# Altium footprint library фильтры.PcbLib: 5 footprints
Each footprint in its own frame and in the unit in brackets; x right, y up, seen from the top. Pads: shape width x height; smd on the part's side, far side on the other; paste and mask are expansions set on the pad; w line width, h text height; cw(c..) or ccw(c..) is an arc to the next point about the centre after c.
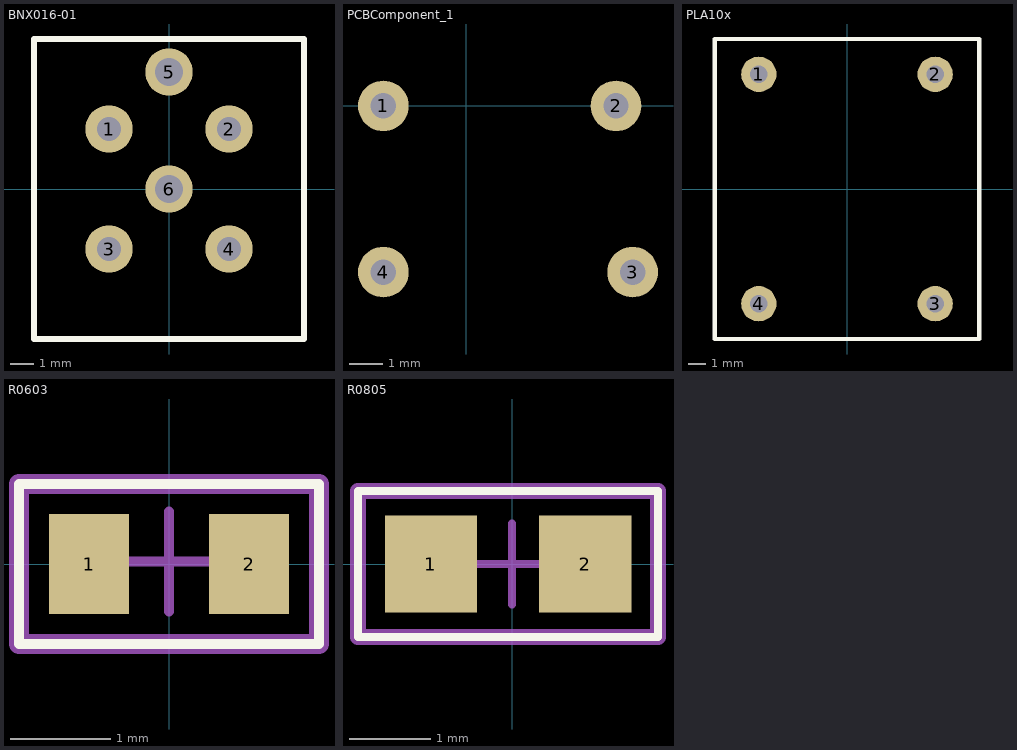
[diagram p0: the footprints below, top view; thin cyan lines are the x and y axes]

## BNX016-01 [mm]
pads (6):
  round 2 hole 1: 1(-2.54,2.54) 2(2.54,2.54) 3(-2.54,-2.54) 4(2.54,-2.54)
  round 2 hole 1.2: 5(0,4.953) 6(0,0)
Top Overlay:
  lines w0.254: -5.715,-6.35 5.715,-6.35 5.715,6.35 -5.715,6.35 -5.715,-6.35
3D body "User Library-muRata_BNX016-01.step": height 8, standoff -4, extent -5.5,-6 5.5,6

## PCBComponent_1 [mil]
pads (4):
  round 60 hole 30: 1(-98.43,0) 2(177.17,0) 3(196.85,-196.85) 4(-98.43,-196.85)

## PLA10x [mm]
pads (4):
  round 2 hole 1: 1(-5,6.5) 2(5,6.5) 3(5,-6.5) 4(-5,-6.5)
Top Overlay:
  lines w0.254: -7.5,-8.5 7.5,-8.5 7.5,8.5 -7.5,8.5 -7.5,-8.5
3D body "User Library-PLA10-1.STEP": height 16.3, standoff -3.3, extent -7.5,-8.385 7.5,8.407

## R0603 [mm]
pads (2):
  rect 0.8x1 smd: 1(-0.8,0) 2(0.8,0)
Top Overlay:
  lines w0.1: -1.5,-0.8 1.5,-0.8 1.5,0.8 -1.5,0.8 -1.5,-0.8
Mechanical 7:
  lines w0.2: -1.5,-0.8 -1.5,0.8 1.5,0.8 1.5,-0.8 -1.5,-0.8
  text ".Designator" at -1.1,-0.4 h1.52
Mechanical 15:
  lines w0.1: -0.527,0.025 0.473,0.025 ; -0.002,-0.475 -0.002,0.525
3D body "R0603.STEP": height 0.56, standoff 0, extent -0.863,-0.381 0.837,0.419

## R0805 [mm]
pads (2):
  rect 1.14x1.2 smd: 1(-1,0) 2(0.905,0)
Top Overlay:
  lines w0.1: -1.9,-0.9 -1.9,0.9 1.8,0.9 1.8,-0.9 -1.9,-0.9
Mechanical 7:
  lines w0.2: -1.9,-0.9 1.8,-0.9 1.8,0.9 -1.9,0.9 -1.9,-0.9
  text ".Designator" at -1.5,-0.5 h1.52
Mechanical 15:
  lines w0.1: -0.5,0 0.5,0 ; 0,-0.5 0,0.5
3D body "R0805.STEP": height 0.76, standoff 0, extent -1.21,-0.675 1.09,0.675